# Altium footprint library TO-247-2.PcbLib: 1 footprints
Each footprint in its own frame and in the unit in brackets; x right, y up, seen from the top. Pads: shape width x height; smd on the part's side, far side on the other; paste and mask are expansions set on the pad; w line width, h text height; cw(c..) or ccw(c..) is an arc to the next point about the centre after c.
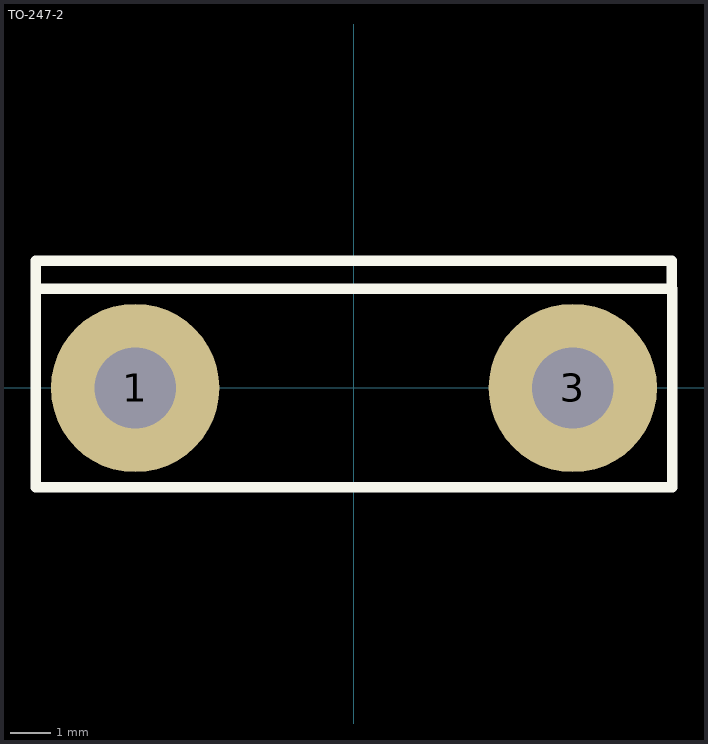
[diagram p0: the footprint, top view; thin cyan lines are the x and y axes]

## TO-247-2 [mm]
pads (2):
  round 4.2 hole 2.032: 1(-5.461,0) 3(5.461,0)
Top Overlay:
  lines w0.254: -7.938,2.476 7.925,2.476 7.925,3.175 -7.938,3.175 -7.938,2.476 ; -7.938,2.476 7.938,2.476 7.938,-2.476 -7.938,-2.476 -7.938,2.476
Bottom Overlay:
  lines w0.254: -7.938,-2.476 7.938,-2.476 7.938,2.476 -7.938,2.476 -7.938,-2.476
3D body "Infineon-PG-TO247-2-2_3D_01_STP-Package-v01_00-EN.stp": height 37.4, standoff -3.8, extent -7.9,-2.3 7.9,2.71